# Altium integrated library RealtekSwitches.IntLib: 4 symbols
Pins are listed as number, name and electrical type; pins without a type are passive.

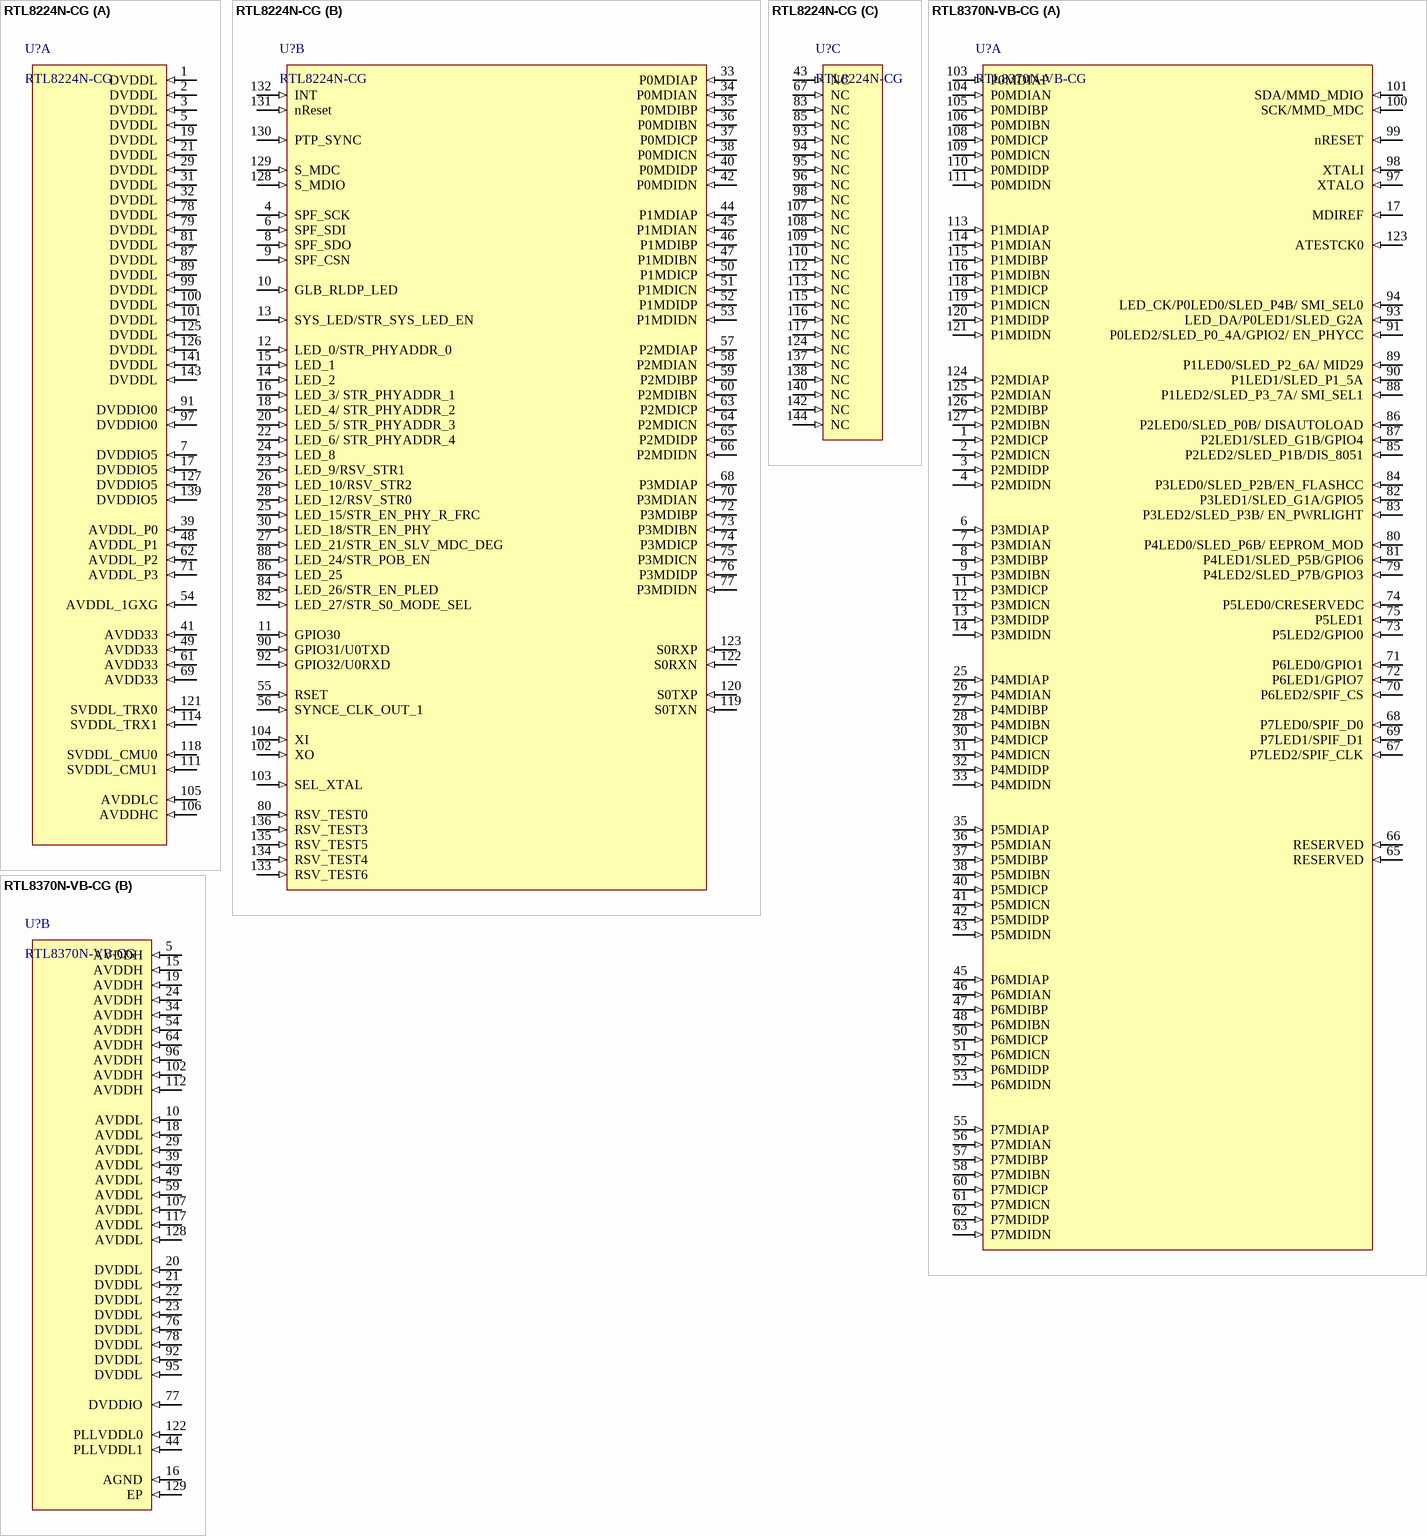
[diagram p0: symbols RTL8224N-CG to RTL8370N-VB-CG]

## RTL8224N-CG
designator U?
part A pins: 1 DVDDL (in), 2 DVDDL (in), 3 DVDDL (in), 5 DVDDL (in), 7 DVDDIO5 (in), 17 DVDDIO5 (in), 19 DVDDL (in), 21 DVDDL (in), 29 DVDDL (in), 31 DVDDL (in), 32 DVDDL (in), 39 AVDDL_P0 (in), 41 AVDD33 (in), 48 AVDDL_P1 (in), 49 AVDD33 (in), 54 AVDDL_1GXG (in), 61 AVDD33 (in), 62 AVDDL_P2 (in), 69 AVDD33 (in), 71 AVDDL_P3 (in), 78 DVDDL (in), 79 DVDDL (in), 81 DVDDL (in), 87 DVDDL (in), 89 DVDDL (in), 91 DVDDIO0 (in), 97 DVDDIO0 (in), 99 DVDDL (in), 100 DVDDL (in), 101 DVDDL (in), 105 AVDDLC (in), 106 AVDDHC (in), 111 SVDDL_CMU1 (in), 114 SVDDL_TRX1 (in), 118 SVDDL_CMU0 (in), 121 SVDDL_TRX0 (in), 125 DVDDL (in), 126 DVDDL (in), 127 DVDDIO5 (in), 139 DVDDIO5 (in), 141 DVDDL (in), 143 DVDDL (in)
part B pins: 4 SPF_SCK (in), 6 SPF_SDI (in), 8 SPF_SDO (in), 9 SPF_CSN (in), 10 GLB_RLDP_LED (in), 11 GPIO30 (in), 12 LED_0/STR_PHYADDR_0 (in), 13 SYS_LED/STR_SYS_LED_EN (in), 14 LED_2 (in), 15 LED_1 (in), 16 LED_3/ STR_PHYADDR_1 (in), 18 LED_4/ STR_PHYADDR_2 (in), 20 LED_5/ STR_PHYADDR_3 (in), 22 LED_6/ STR_PHYADDR_4 (in), 23 LED_9/RSV_STR1 (in), 24 LED_8 (in), 25 LED_15/STR_EN_PHY_R_FRC (in), 26 LED_10/RSV_STR2 (in), 27 LED_21/STR_EN_SLV_MDC_DEG (in), 28 LED_12/RSV_STR0 (in), 30 LED_18/STR_EN_PHY (in), 33 P0MDIAP (in), 34 P0MDIAN (in), 35 P0MDIBP (in), 36 P0MDIBN (in), 37 P0MDICP (in), 38 P0MDICN (in), 40 P0MDIDP (in), 42 P0MDIDN (in), 44 P1MDIAP (in), 45 P1MDIAN (in), 46 P1MDIBP (in), 47 P1MDIBN (in), 50 P1MDICP (in), 51 P1MDICN (in), 52 P1MDIDP (in), 53 P1MDIDN (in), 55 RSET (in), 56 SYNCE_CLK_OUT_1 (in), 57 P2MDIAP (in), 58 P2MDIAN (in), 59 P2MDIBP (in), 60 P2MDIBN (in), 63 P2MDICP (in), 64 P2MDICN (in), 65 P2MDIDP (in), 66 P2MDIDN (in), 68 P3MDIAP (in), 70 P3MDIAN (in), 72 P3MDIBP (in), 73 P3MDIBN (in), 74 P3MDICP (in), 75 P3MDICN (in), 76 P3MDIDP (in), 77 P3MDIDN (in), 80 RSV_TEST0 (in), 82 LED_27/STR_S0_MODE_SEL (in), 84 LED_26/STR_EN_PLED (in), 86 LED_25 (in), 88 LED_24/STR_POB_EN (in), 90 GPIO31/U0TXD (in), 92 GPIO32/U0RXD (in), 102 XO (in), 103 SEL_XTAL (in), 104 XI (in), 119 S0TXN (in), 120 S0TXP (in), 122 S0RXN (in), 123 S0RXP (in), 128 S_MDIO (in), 129 S_MDC (in), 130 PTP_SYNC (in), 131 nReset (in), 132 INT (in), 133 RSV_TEST6 (in), 134 RSV_TEST4 (in), 135 RSV_TEST5 (in), 136 RSV_TEST3 (in)
part C pins: 43 NC (in), 67 NC (in), 83 NC (in), 85 NC (in), 93 NC (in), 94 NC (in), 95 NC (in), 96 NC (in), 98 NC (in), 107 NC (in), 108 NC (in), 109 NC (in), 110 NC (in), 112 NC (in), 113 NC (in), 115 NC (in), 116 NC (in), 117 NC (in), 124 NC (in), 137 NC (in), 138 NC (in), 140 NC (in), 142 NC (in), 144 NC (in)

## RTL8370N-VB-CG
designator U?
Single-Chip 8-Port 10/100/1000M Switch Controller , 128QFP; Manufacturer: REALTEK; ComponentLink1Description: LCSC Link; ComponentLink1URL: https://www.lcsc.com/product-detail/C2803243.html?s_z=n_RTL8370N; LCSC: C2803243; Manufacturer Part Number: RTL8370N-VB-CG
footprint QFP50P2200X1600X160-129N (/ 090726 / J.Jaramillo)
part A pins: 1 P2MDICP (in), 2 P2MDICN (in), 3 P2MDIDP (in), 4 P2MDIDN (in), 6 P3MDIAP (in), 7 P3MDIAN (in), 8 P3MDIBP (in), 9 P3MDIBN (in), 11 P3MDICP (in), 12 P3MDICN (in), 13 P3MDIDP (in), 14 P3MDIDN (in), 17 MDIREF (in), 25 P4MDIAP (in), 26 P4MDIAN (in), 27 P4MDIBP (in), 28 P4MDIBN (in), 30 P4MDICP (in), 31 P4MDICN (in), 32 P4MDIDP (in), 33 P4MDIDN (in), 35 P5MDIAP (in), 36 P5MDIAN (in), 37 P5MDIBP (in), 38 P5MDIBN (in), 40 P5MDICP (in), 41 P5MDICN (in), 42 P5MDIDP (in), 43 P5MDIDN (in), 45 P6MDIAP (in), 46 P6MDIAN (in), 47 P6MDIBP (in), 48 P6MDIBN (in), 50 P6MDICP (in), 51 P6MDICN (in), 52 P6MDIDP (in), 53 P6MDIDN (in), 55 P7MDIAP (in), 56 P7MDIAN (in), 57 P7MDIBP (in), 58 P7MDIBN (in), 60 P7MDICP (in), 61 P7MDICN (in), 62 P7MDIDP (in), 63 P7MDIDN (in), 65 RESERVED (in), 66 RESERVED (in), 67 P7LED2/SPIF_CLK (in), 68 P7LED0/SPIF_D0 (in), 69 P7LED1/SPIF_D1 (in), 70 P6LED2/SPIF_CS (in), 71 P6LED0/GPIO1 (in), 72 P6LED1/GPIO7 (in), 73 P5LED2/GPIO0 (in), 74 P5LED0/CRESERVEDC (in), 75 P5LED1 (in), 79 P4LED2/SLED_P7B/GPIO3 (in), 80 P4LED0/SLED_P6B/ EEPROM_MOD (in), 81 P4LED1/SLED_P5B/GPIO6 (in), 82 P3LED1/SLED_G1A/GPIO5 (in), 83 P3LED2/SLED_P3B/ EN_PWRLIGHT (in), 84 P3LED0/SLED_P2B/EN_FLASHCC (in), 85 P2LED2/SLED_P1B/DIS_8051 (in), 86 P2LED0/SLED_P0B/ DISAUTOLOAD (in), 87 P2LED1/SLED_G1B/GPIO4 (in), 88 P1LED2/SLED_P3_7A/ SMI_SEL1 (in), 89 P1LED0/SLED_P2_6A/ MID29 (in), 90 P1LED1/SLED_P1_5A (in), 91 P0LED2/SLED_P0_4A/GPIO2/ EN_PHYCC (in), 93 LED_DA/P0LED1/SLED_G2A (in), 94 LED_CK/P0LED0/SLED_P4B/ SMI_SEL0 (in), 97 XTALO (in), 98 XTALI (in), 99 nRESET (in), 100 SCK/MMD_MDC (in), 101 SDA/MMD_MDIO (in), 103 P0MDIAP (in), 104 P0MDIAN (in), 105 P0MDIBP (in), 106 P0MDIBN (in), 108 P0MDICP (in), 109 P0MDICN (in), 110 P0MDIDP (in), 111 P0MDIDN (in), 113 P1MDIAP (in), 114 P1MDIAN (in), 115 P1MDIBP (in), 116 P1MDIBN (in), 118 P1MDICP (in), 119 P1MDICN (in), 120 P1MDIDP (in), 121 P1MDIDN (in), 123 ATESTCK0 (in), 124 P2MDIAP (in), 125 P2MDIAN (in), 126 P2MDIBP (in), 127 P2MDIBN (in)
part B pins: 5 AVDDH (in), 10 AVDDL (in), 15 AVDDH (in), 16 AGND (in), 18 AVDDL (in), 19 AVDDH (in), 20 DVDDL (in), 21 DVDDL (in), 22 DVDDL (in), 23 DVDDL (in), 24 AVDDH (in), 29 AVDDL (in), 34 AVDDH (in), 39 AVDDL (in), 44 PLLVDDL1 (in), 49 AVDDL (in), 54 AVDDH (in), 59 AVDDL (in), 64 AVDDH (in), 76 DVDDL (in), 77 DVDDIO (in), 78 DVDDL (in), 92 DVDDL (in), 95 DVDDL (in), 96 AVDDH (in), 102 AVDDH (in), 107 AVDDL (in), 112 AVDDH (in), 117 AVDDL (in), 122 PLLVDDL0 (in), 128 AVDDL (in), 129 EP (in)

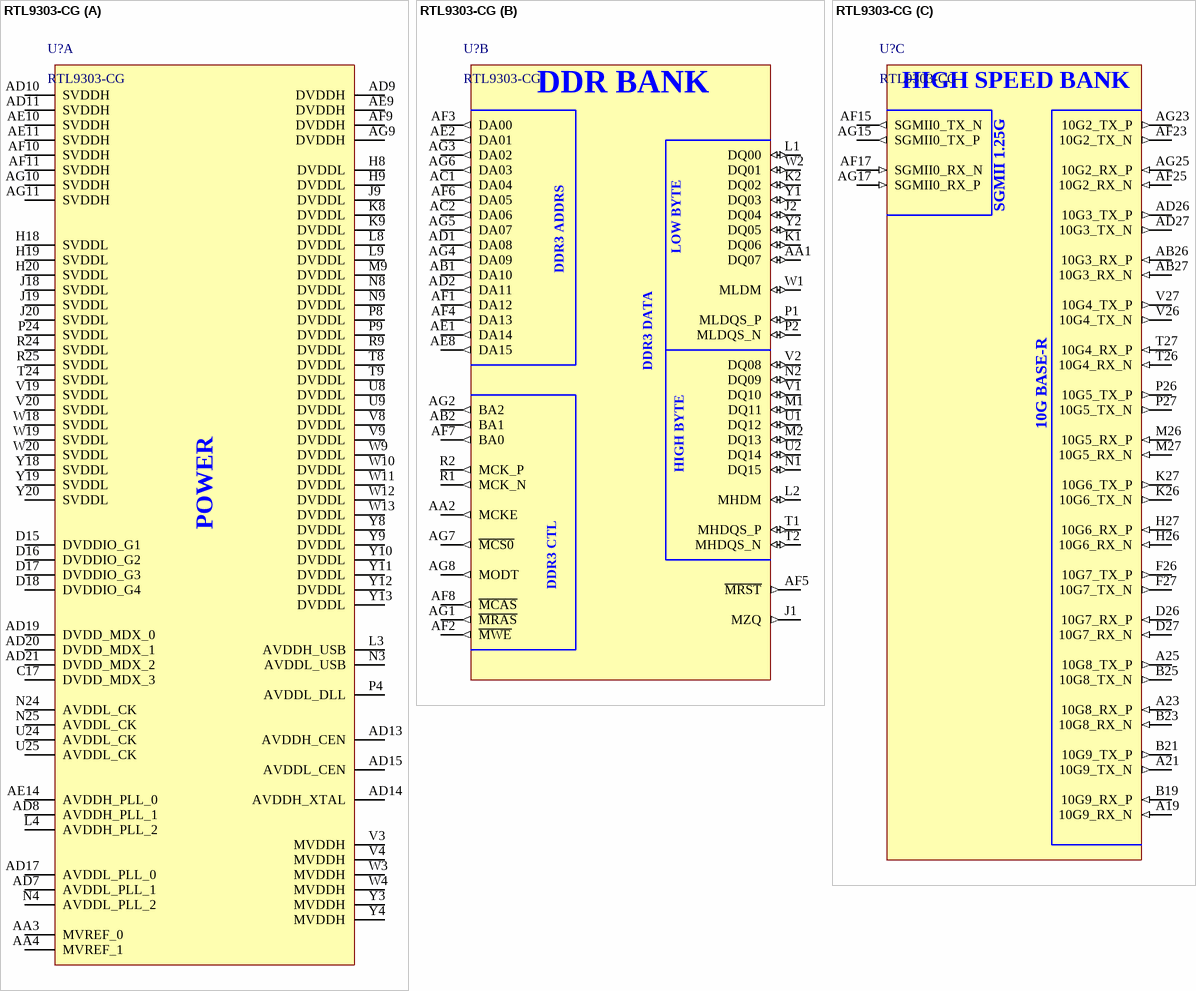
[diagram p1: symbol RTL9303-CG]

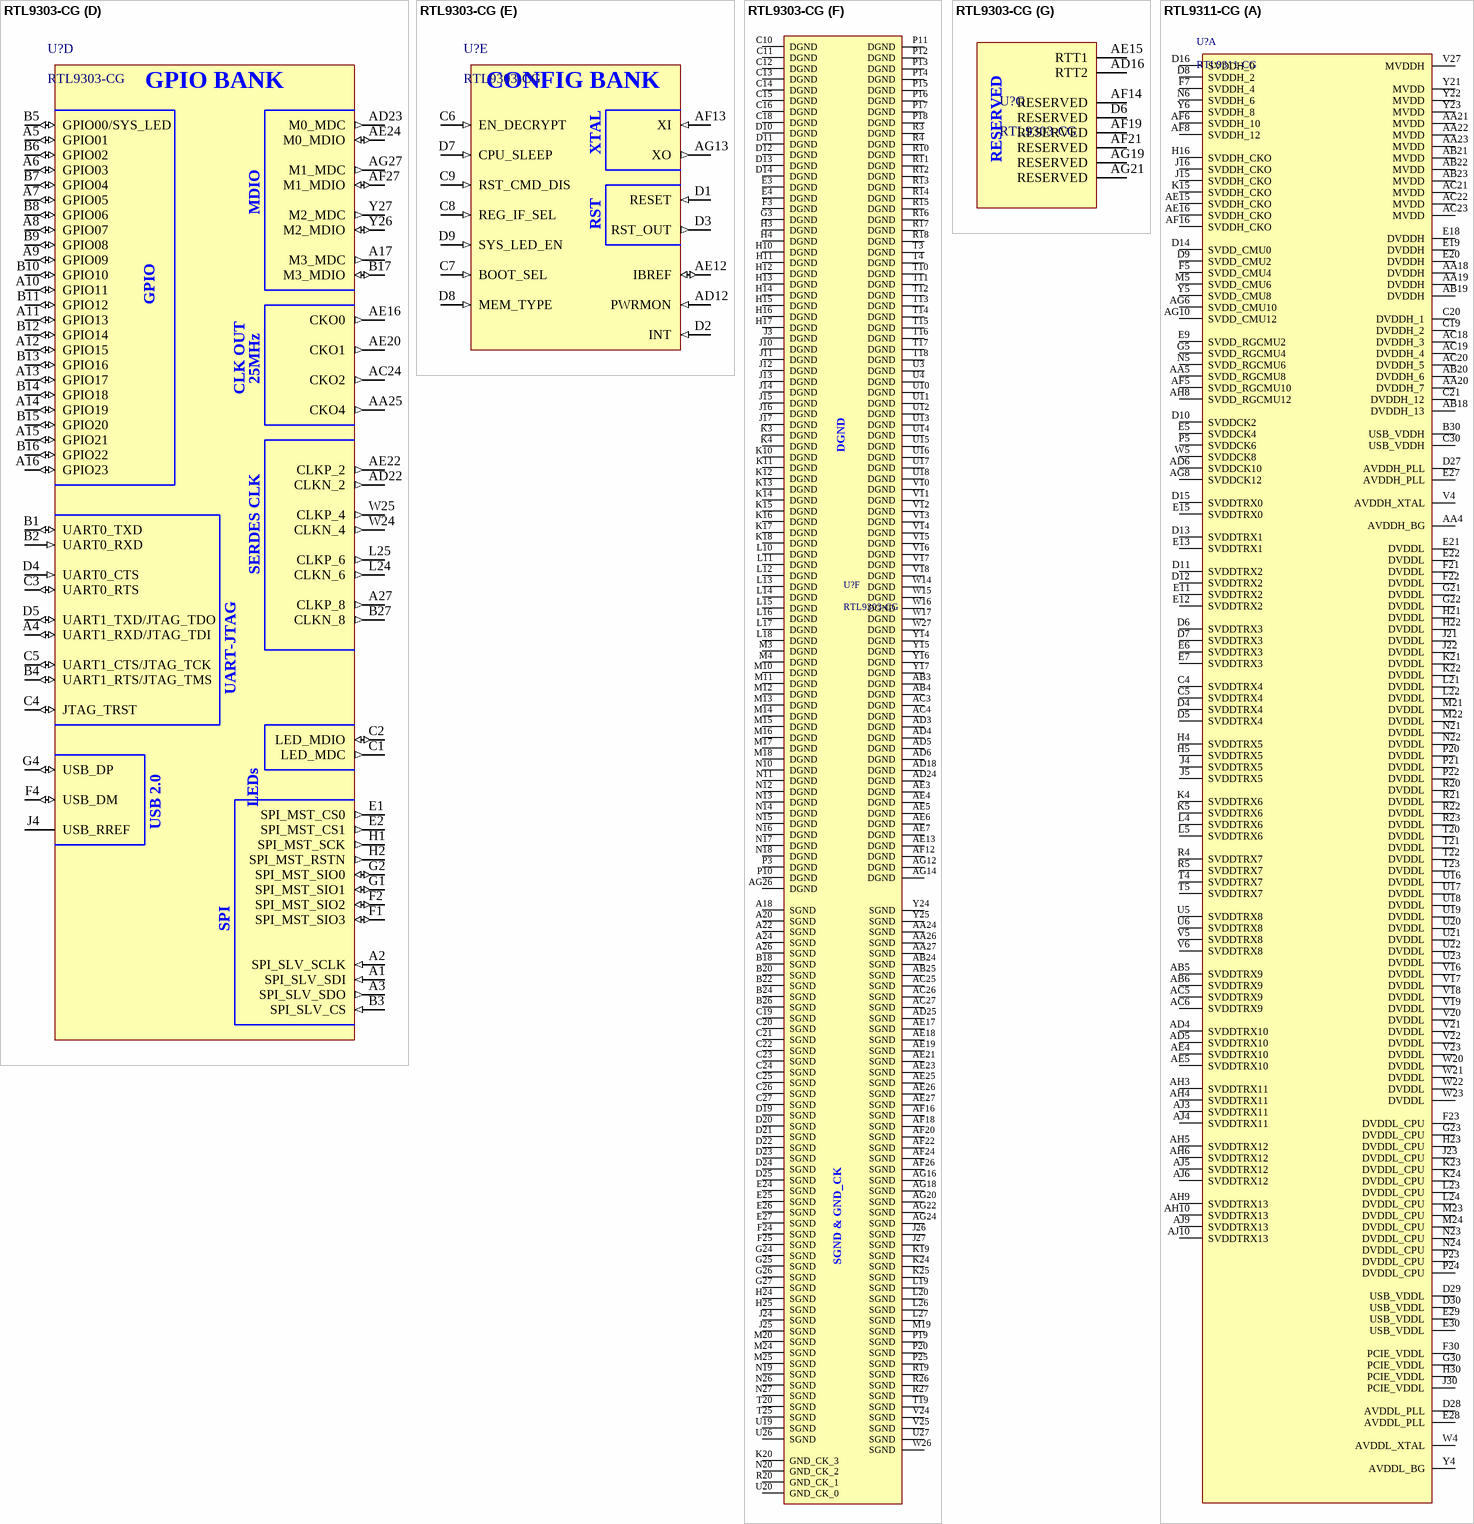
[diagram p2: symbols RTL9303-CG to RTL9311-CG]

## RTL9303-CG
designator U?
Single-Chip 8-Port 10G Layer-3 Managed Ethernet Switch Controller EDHS-PBGA533; Manufacturer: Realtek; Manufacturer Part Number: RTL9303-CG; ComponentLink1Description: New link; ComponentLink1URL: *; ComponentLink2Description: New link 1; ComponentLink2URL: *; Supplier 1: *; Supplier 1 Part number: *; Package: BGA673
footprint EDHS-PBGA533_23MMX23MM (/ 070726 / J.Jaramillo)
part A pins: AA3 MVREF_0 (power), AA4 MVREF_1 (power), AD7 AVDDL_PLL_1 (power), AD8 AVDDH_PLL_1 (power), AD9 DVDDH (power), AD10 SVDDH (power), AD11 SVDDH (power), AD13 AVDDH_CEN (power), AD14 AVDDH_XTAL (power), AD15 AVDDL_CEN (power), AD17 AVDDL_PLL_0 (power), AD19 DVDD_MDX_0 (power), AD20 DVDD_MDX_1 (power), AD21 DVDD_MDX_2 (power), AE9 DVDDH (power), AE10 SVDDH (power), AE11 SVDDH (power), AE14 AVDDH_PLL_0 (power), AF9 DVDDH (power), AF10 SVDDH (power), AF11 SVDDH (power), AG9 DVDDH (power), AG10 SVDDH (power), AG11 SVDDH (power), C17 DVDD_MDX_3 (power), D15 DVDDIO_G1 (power), D16 DVDDIO_G2 (power), D17 DVDDIO_G3 (power), D18 DVDDIO_G4 (power), H8 DVDDL (power), H9 DVDDL (power), H18 SVDDL (power), H19 SVDDL (power), H20 SVDDL (power), J9 DVDDL (power), J18 SVDDL (power), J19 SVDDL (power), J20 SVDDL (power), K8 DVDDL (power), K9 DVDDL (power), L3 AVDDH_USB (power), L4 AVDDH_PLL_2 (power), L8 DVDDL (power), L9 DVDDL (power), M9 DVDDL (power), N3 AVDDL_USB (power), N4 AVDDL_PLL_2 (power), N8 DVDDL (power), N9 DVDDL (power), N24 AVDDL_CK (power), N25 AVDDL_CK (power), P4 AVDDL_DLL (power), P8 DVDDL (power), P9 DVDDL (power), P24 SVDDL (power), R9 DVDDL (power), R24 SVDDL (power), R25 SVDDL (power), T8 DVDDL (power), T9 DVDDL (power), T24 SVDDL (power), U8 DVDDL (power), U9 DVDDL (power), U24 AVDDL_CK (power), U25 AVDDL_CK (power), V3 MVDDH (power), V4 MVDDH (power), V8 DVDDL (power), V9 DVDDL (power), V19 SVDDL (power), V20 SVDDL (power), W3 MVDDH (power), W4 MVDDH (power), W9 DVDDL (power), W10 DVDDL (power), W11 DVDDL (power), W12 DVDDL (power), W13 DVDDL (power), W18 SVDDL (power), W19 SVDDL (power), W20 SVDDL (power), Y3 MVDDH (power), Y4 MVDDH (power), Y8 DVDDL (power), Y9 DVDDL (power), Y10 DVDDL (power), Y11 DVDDL (power), Y12 DVDDL (power), Y13 DVDDL (power), Y18 SVDDL (power), Y19 SVDDL (power), Y20 SVDDL (power)
part B pins: AA1 DQ07 (io), AA2 MCKE (out), AB1 DA10 (out), AB2 BA1 (out), AC1 DA04 (out), AC2 DA06 (out), AD1 DA08 (out), AD2 DA11 (out), AE1 DA14 (out), AE2 DA01 (out), AE8 DA15 (out), AF1 DA12 (out), AF2 ~{MWE} (out), AF3 DA00 (out), AF4 DA13 (out), AF5 ~{MRST} (out), AF6 DA05 (out), AF7 BA0 (out), AF8 ~{MCAS} (out), AG1 ~{MRAS} (out), AG2 BA2 (out), AG3 DA02 (out), AG4 DA09 (out), AG5 DA07 (out), AG6 DA03 (out), AG7 ~{MCS0} (out), AG8 MODT (out), J1 MZQ (out), J2 DQ04 (io), K1 DQ06 (io), K2 DQ02 (io), L1 DQ00 (io), L2 MHDM (io), M1 DQ11 (io), M2 DQ13 (io), N1 DQ15 (io), N2 DQ09 (io), P1 MLDQS_P (io), P2 MLDQS_N (io), R1 MCK_N (out), R2 MCK_P (out), T1 MHDQS_P (io), T2 MHDQS_N (io), U1 DQ12 (io), U2 DQ14 (io), V1 DQ10 (io), V2 DQ08 (io), W1 MLDM (io), W2 DQ01 (io), Y1 DQ03 (io), Y2 DQ05 (io)
part C pins: A19 10G9_RX_N (in), A21 10G9_TX_N (out), A23 10G8_RX_P (in), A25 10G8_TX_P (out), AB26 10G3_RX_P (in), AB27 10G3_RX_N (in), AD26 10G3_TX_P (out), AD27 10G3_TX_N (out), AF15 SGMII0_TX_N (out), AF17 SGMII0_RX_N (in), AF23 10G2_TX_N (out), AF25 10G2_RX_N (in), AG15 SGMII0_TX_P (out), AG17 SGMII0_RX_P (in), AG23 10G2_TX_P (out), AG25 10G2_RX_P (in), B19 10G9_RX_P (in), B21 10G9_TX_P (out), B23 10G8_RX_N (in), B25 10G8_TX_N (out), D26 10G7_RX_P (in), D27 10G7_RX_N (in), F26 10G7_TX_P (out), F27 10G7_TX_N (out), H26 10G6_RX_N (in), H27 10G6_RX_P (in), K26 10G6_TX_N (out), K27 10G6_TX_P (out), M26 10G5_RX_P (in), M27 10G5_RX_N (in), P26 10G5_TX_P (out), P27 10G5_TX_N (out), T26 10G4_RX_N (in), T27 10G4_RX_P (in), V26 10G4_TX_N (out), V27 10G4_TX_P (out)
part D pins: A1 SPI_SLV_SDI (in), A2 SPI_SLV_SCLK (in), A3 SPI_SLV_SDO (out), A4 UART1_RXD/JTAG_TDI (io), A5 GPIO01 (io), A6 GPIO03 (io), A7 GPIO05 (io), A8 GPIO07 (io), A9 GPIO09 (io), A10 GPIO11 (io), A11 GPIO13 (io), A12 GPIO15 (io), A13 GPIO17 (io), A14 GPIO19 (io), A15 GPIO21 (io), A16 GPIO23 (io), A17 M3_MDC (out), A27 CLKP_8 (out), AA25 CKO4 (out), AC24 CKO2 (out), AD22 CLKN_2 (out), AD23 M0_MDC (out), AE16 CKO0 (out), AE20 CKO1 (out), AE22 CLKP_2 (out), AE24 M0_MDIO (io), AF27 M1_MDIO (io), AG27 M1_MDC (out), B1 UART0_TXD (io), B2 UART0_RXD (in), B3 SPI_SLV_CS (in), B4 UART1_RTS/JTAG_TMS (io), B5 GPIO00/SYS_LED (io), B6 GPIO02 (io), B7 GPIO04 (io), B8 GPIO06 (io), B9 GPIO08 (io), B10 GPIO10 (io), B11 GPIO12 (io), B12 GPIO14 (io), B13 GPIO16 (io), B14 GPIO18 (io), B15 GPIO20 (io), B16 GPIO22 (io), B17 M3_MDIO (io), B27 CLKN_8 (out), C1 LED_MDC (out), C2 LED_MDIO (io), C3 UART0_RTS (io), C4 JTAG_TRST (io), C5 UART1_CTS/JTAG_TCK (io), D4 UART0_CTS (in), D5 UART1_TXD/JTAG_TDO (io), E1 SPI_MST_CS0 (out), E2 SPI_MST_CS1 (out), F1 SPI_MST_SIO3 (io), F2 SPI_MST_SIO2 (io), F4 USB_DM (io), G1 SPI_MST_SIO1 (io), G2 SPI_MST_SIO0 (io), G4 USB_DP (io), H1 SPI_MST_SCK (out), H2 SPI_MST_RSTN (out), J4 USB_RREF, L24 CLKN_6 (out), L25 CLKP_6 (out), W24 CLKN_4 (out), W25 CLKP_4 (out), Y26 M2_MDIO (io), Y27 M2_MDC (out)
part E pins: AD12 PWRMON (in), AE12 IBREF (io), AF13 XI (in), AG13 XO (out), C6 EN_DECRYPT (in), C7 BOOT_SEL (in), C8 REG_IF_SEL (in), C9 RST_CMD_DIS (in), D1 RESET (in), D2 INT (in), D3 RST_OUT (out), D7 CPU_SLEEP (in), D8 MEM_TYPE (in), D9 SYS_LED_EN (in)
part F pins: A18 SGND (power), A20 SGND (power), A22 SGND (power), A24 SGND (power), A26 SGND (power), AA24 SGND (power), AA26 SGND (power), AA27 SGND (power), AB3 DGND (power), AB4 DGND (power), AB24 SGND (power), AB25 SGND (power), AC3 DGND (power), AC4 DGND (power), AC25 SGND (power), AC26 SGND (power), AC27 SGND (power), AD3 DGND (power), AD4 DGND (power), AD5 DGND (power), AD6 DGND (power), AD18 DGND (power), AD24 DGND (power), AD25 SGND (power), AE3 DGND (power), AE4 DGND (power), AE5 DGND (power), AE6 DGND (power), AE7 DGND (power), AE13 DGND (power), AE17 SGND (power), AE18 SGND (power), AE19 SGND (power), AE21 SGND (power), AE23 SGND (power), AE25 SGND (power), AE26 SGND (power), AE27 SGND (power), AF12 DGND (power), AF16 SGND (power), AF18 SGND (power), AF20 SGND (power), AF22 SGND (power), AF24 SGND (power), AF26 SGND (power), AG12 DGND (power), AG14 DGND (power), AG16 SGND (power), AG18 SGND (power), AG20 SGND (power), AG22 SGND (power), AG24 SGND (power), AG26 DGND (power), B18 SGND (power), B20 SGND (power), B22 SGND (power), B24 SGND (power), B26 SGND (power), C10 DGND (power), C11 DGND (power), C12 DGND (power), C13 DGND (power), C14 DGND (power), C15 DGND (power), C16 DGND (power), C18 DGND (power), C19 SGND (power), C20 SGND (power), C21 SGND (power), C22 SGND (power), C23 SGND (power), C24 SGND (power), C25 SGND (power), C26 SGND (power), C27 SGND (power), D10 DGND (power), D11 DGND (power), D12 DGND (power), D13 DGND (power), D14 DGND (power), D19 SGND (power), D20 SGND (power), D21 SGND (power), D22 SGND (power), D23 SGND (power), D24 SGND (power), D25 SGND (power), E3 DGND (power), E4 DGND (power), E24 SGND (power), E25 SGND (power), E26 SGND (power), E27 SGND (power), F3 DGND (power), F24 SGND (power), F25 SGND (power), G3 DGND (power), G24 SGND (power), G25 SGND (power), G26 SGND (power), G27 SGND (power), H3 DGND (power), H4 DGND (power), H10 DGND (power), H11 DGND (power), H12 DGND (power), H13 DGND (power), H14 DGND (power), H15 DGND (power), H16 DGND (power), H17 DGND (power), H24 SGND (power), H25 SGND (power), J3 DGND (power), J10 DGND (power), J11 DGND (power), J12 DGND (power), J13 DGND (power), J14 DGND (power), J15 DGND (power), J16 DGND (power), J17 DGND (power), J24 SGND (power), J25 SGND (power), J26 SGND (power), J27 SGND (power), K3 DGND (power), K4 DGND (power), K10 DGND (power), K11 DGND (power), K12 DGND (power), K13 DGND (power), K14 DGND (power), K15 DGND (power), K16 DGND (power), K17 DGND (power), K18 DGND (power), K19 SGND (power), K20 GND_CK_3 (power), K24 SGND (power), K25 SGND (power), L10 DGND (power), L11 DGND (power), L12 DGND (power), L13 DGND (power), L14 DGND (power), L15 DGND (power), L16 DGND (power), L17 DGND (power), L18 DGND (power), L19 SGND (power), L20 SGND (power), L26 SGND (power), L27 SGND (power), M3 DGND (power), M4 DGND (power), M10 DGND (power), M11 DGND (power), M12 DGND (power), M13 DGND (power), M14 DGND (power), M15 DGND (power), M16 DGND (power), M17 DGND (power), M18 DGND (power), M19 SGND (power), M20 SGND (power), M24 SGND (power), M25 SGND (power), N10 DGND (power), N11 DGND (power), N12 DGND (power), N13 DGND (power), N14 DGND (power), N15 DGND (power), N16 DGND (power), N17 DGND (power), N18 DGND (power), N19 SGND (power), N20 GND_CK_2 (power), N26 SGND (power), N27 SGND (power), P3 DGND (power), P10 DGND (power), P11 DGND (power), P12 DGND (power), P13 DGND (power), P14 DGND (power), P15 DGND (power), P16 DGND (power), P17 DGND (power), P18 DGND (power), P19 SGND (power), P20 SGND (power), P25 SGND (power), R3 DGND (power), R4 DGND (power), R10 DGND (power), R11 DGND (power), R12 DGND (power), R13 DGND (power), R14 DGND (power), R15 DGND (power), R16 DGND (power), R17 DGND (power), R18 DGND (power), R19 SGND (power), R20 GND_CK_1 (power), R26 SGND (power), R27 SGND (power), T3 DGND (power), T4 DGND (power), T10 DGND (power), T11 DGND (power), T12 DGND (power), T13 DGND (power), T14 DGND (power), T15 DGND (power), T16 DGND (power), T17 DGND (power), T18 DGND (power), T19 SGND (power), T20 SGND (power), T25 SGND (power), U3 DGND (power), U4 DGND (power), U10 DGND (power), U11 DGND (power), U12 DGND (power), U13 DGND (power), U14 DGND (power), U15 DGND (power), U16 DGND (power), U17 DGND (power), U18 DGND (power), U19 SGND (power), U20 GND_CK_0 (power), U26 SGND (power), U27 SGND (power), V10 DGND (power), V11 DGND (power), V12 DGND (power), V13 DGND (power), V14 DGND (power), V15 DGND (power), V16 DGND (power), V17 DGND (power), V18 DGND (power), V24 SGND (power), V25 SGND (power), W14 DGND (power), W15 DGND (power), W16 DGND (power), W17 DGND (power), W26 SGND (power), W27 DGND (power), Y14 DGND (power), Y15 DGND (power), Y16 DGND (power), Y17 DGND (power), Y24 SGND (power), Y25 SGND (power)
part G pins: AD16 RTT2, AE15 RTT1, AF14 RESERVED, AF19 RESERVED, AF21 RESERVED, AG19 RESERVED, AG21 RESERVED, D6 RESERVED
part A text: POWER
part B text: DDR BANK; LOW BYTE; DDR3 ADDRS; DDR3 DATA; HIGH BYTE; DDR3 CTL
part C text: HIGH SPEED BANK; SGMII 1.25G; 10G BASE-R
part D text: GPIO BANK; MDIO; GPIO; 25MHz; CLK OUT; SERDES CLK; UART-JTAG; LEDs; USB 2.0; SPI
part E text: CONFIG BANK; XTAL; RST
part F text: SGND & GND_CK

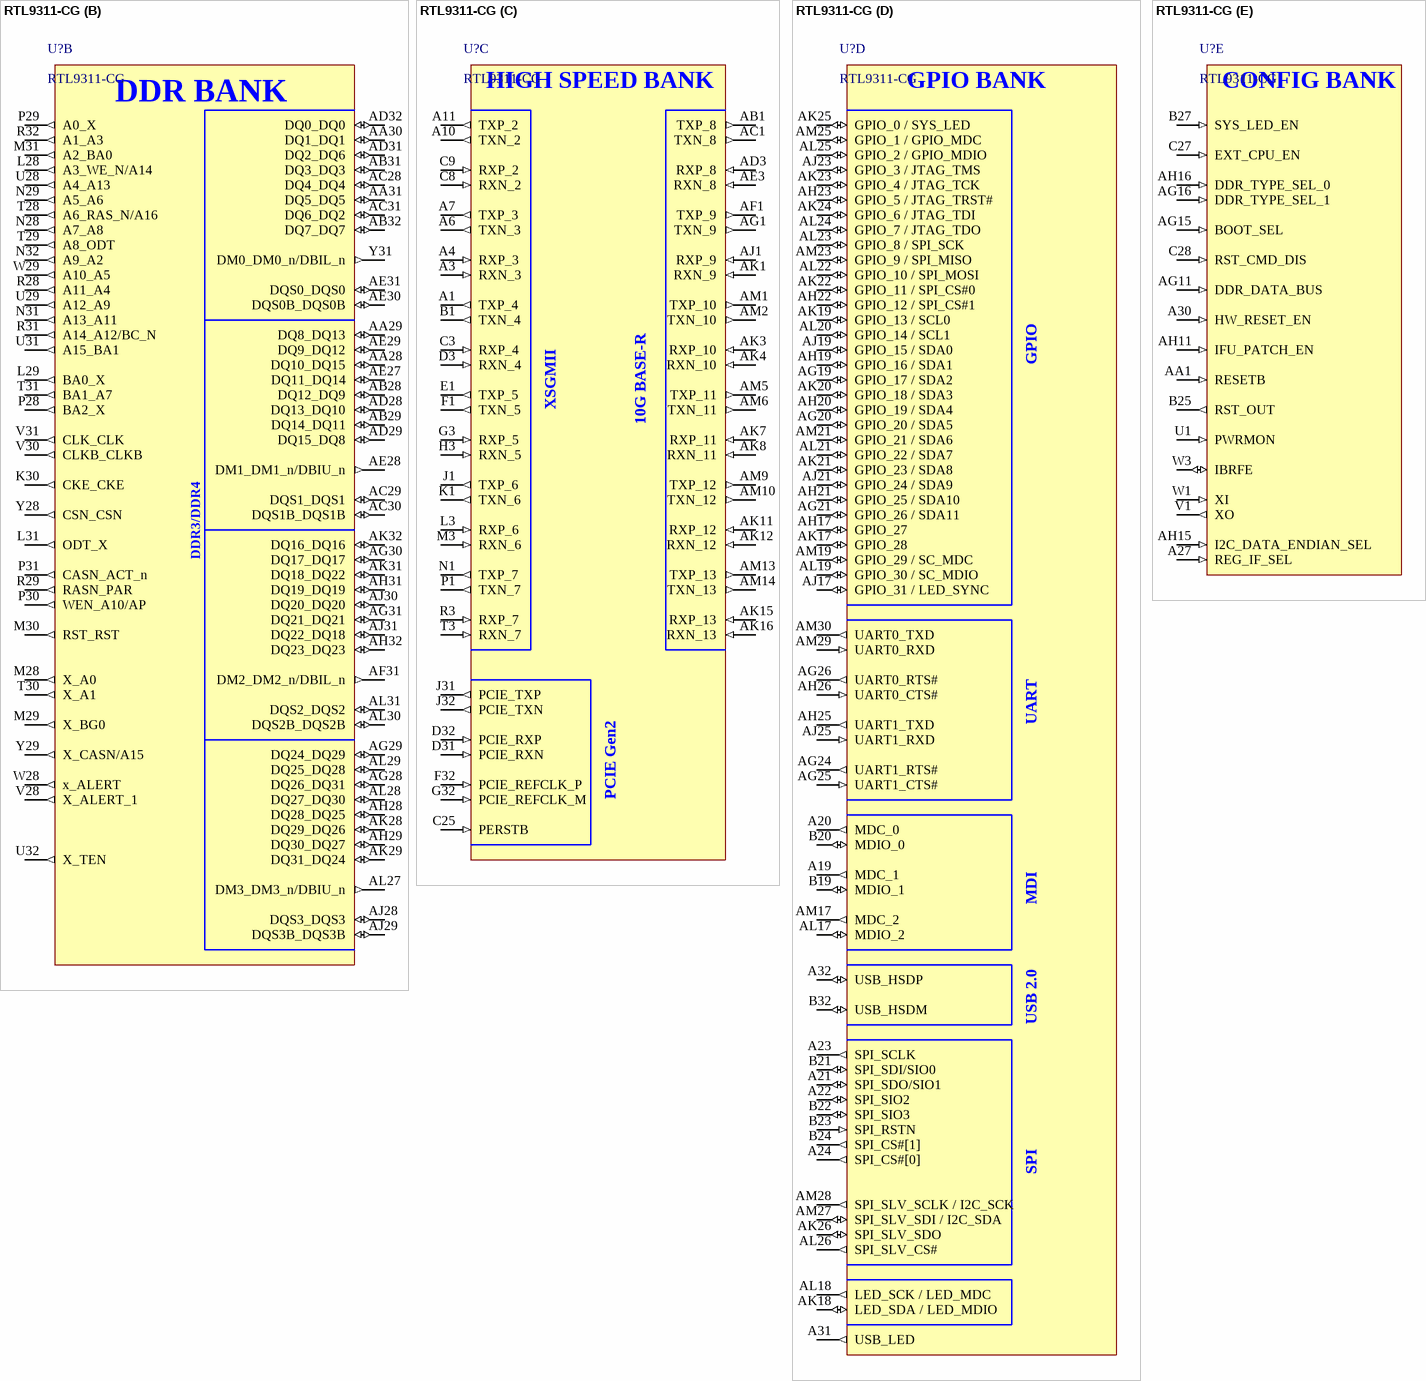
[diagram p3: symbol RTL9311-CG]

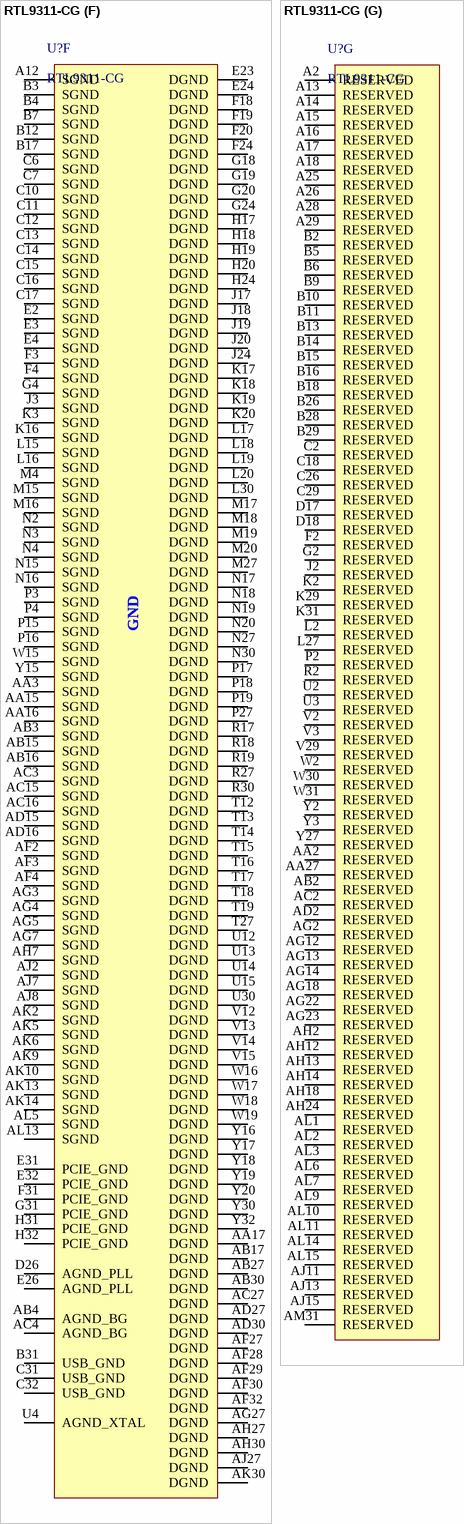
[diagram p4: symbol RTL9311-CG]

## RTL9311-CG
designator U?
Manufacturer: Realtek; Manufacturer Part Number: RTL9311-CG
footprint BGA673C80P32X32_2700X2700X263 (BGA, 673-Leads, Body 27,00x27,00mmx2,63mm, Pitch 0,80mm)
part A pins: AA4 AVDDH_BG (power), AA5 SVDD_RGCMU8 (power), AA18 DVDDH (power), AA19 DVDDH (power), AA20 DVDDH_7 (power), AA21 MVDD (power), AA22 MVDD (power), AA23 MVDD (power), AB5 SVDDTRX9 (power), AB6 SVDDTRX9 (power), AB18 DVDDH_13 (power), AB19 DVDDH (power), AB20 DVDDH_6 (power), AB21 MVDD (power), AB22 MVDD (power), AB23 MVDD (power), AC5 SVDDTRX9 (power), AC6 SVDDTRX9 (power), AC18 DVDDH_3 (power), AC19 DVDDH_4 (power), AC20 DVDDH_5 (power), AC21 MVDD (power), AC22 MVDD (power), AC23 MVDD (power), AD4 SVDDTRX10 (power), AD5 SVDDTRX10 (power), AD6 SVDDCK10 (power), AE4 SVDDTRX10 (power), AE5 SVDDTRX10 (power), AE15 SVDDH_CKO (power), AE16 SVDDH_CKO (power), AF5 SVDD_RGCMU10 (power), AF6 SVDDH_10 (power), AF8 SVDDH_12 (power), AF16 SVDDH_CKO (power), AG6 SVDD_CMU10 (power), AG8 SVDDCK12 (power), AG10 SVDD_CMU12 (power), AH3 SVDDTRX11 (power), AH4 SVDDTRX11 (power), AH5 SVDDTRX12 (power), AH6 SVDDTRX12 (power), AH8 SVDD_RGCMU12 (power), AH9 SVDDTRX13 (power), AH10 SVDDTRX13 (power), AJ3 SVDDTRX11 (power), AJ4 SVDDTRX11 (power), AJ5 SVDDTRX12 (power), AJ6 SVDDTRX12 (power), AJ9 SVDDTRX13 (power), AJ10 SVDDTRX13 (power), B30 USB_VDDH (power), C4 SVDDTRX4 (power), C5 SVDDTRX4 (power), C19 DVDDH_2 (power), C20 DVDDH_1 (power), C21 DVDDH_12 (power), C30 USB_VDDH (power), D4 SVDDTRX4 (power), D5 SVDDTRX4 (power), D6 SVDDTRX3 (power), D7 SVDDTRX3 (power), D8 SVDDH_2 (power), D9 SVDD_CMU2 (power), D10 SVDDCK2 (power), D11 SVDDTRX2 (power), D12 SVDDTRX2 (power), D13 SVDDTRX1 (power), D14 SVDD_CMU0 (power), D15 SVDDTRX0 (power), D16 SVDDH_0 (power), D27 AVDDH_PLL (power), D28 AVDDL_PLL (power), D29 USB_VDDL (power), D30 USB_VDDL (power), E5 SVDDCK4 (power), E6 SVDDTRX3 (power), E7 SVDDTRX3 (power), E9 SVDD_RGCMU2 (power), E11 SVDDTRX2 (power), E12 SVDDTRX2 (power), E13 SVDDTRX1 (power), E15 SVDDTRX0 (power), E18 DVDDH (power), E19 DVDDH (power), E20 DVDDH (power), E21 DVDDL (power), E22 DVDDL (power), E27 AVDDH_PLL (power), E28 AVDDL_PLL (power), E29 USB_VDDL (power), E30 USB_VDDL (power), F5 SVDD_CMU4 (power), F7 SVDDH_4 (power), F21 DVDDL (power), F22 DVDDL (power), F23 DVDDL_CPU (power), F30 PCIE_VDDL (power), G5 SVDD_RGCMU4 (power), G21 DVDDL (power), G22 DVDDL (power), G23 DVDDL_CPU (power), G30 PCIE_VDDL (power), H4 SVDDTRX5 (power), H5 SVDDTRX5 (power), H16 SVDDH_CKO (power), H21 DVDDL (power), H22 DVDDL (power), H23 DVDDL_CPU (power), H30 PCIE_VDDL (power), J4 SVDDTRX5 (power), J5 SVDDTRX5 (power), J15 SVDDH_CKO (power), J16 SVDDH_CKO (power), J21 DVDDL (power), J22 DVDDL (power), J23 DVDDL_CPU (power), J30 PCIE_VDDL (power), K4 SVDDTRX6 (power), K5 SVDDTRX6 (power), K15 SVDDH_CKO (power), K21 DVDDL (power), K22 DVDDL (power), K23 DVDDL_CPU (power), K24 DVDDL_CPU (power), L4 SVDDTRX6 (power), L5 SVDDTRX6 (power), L21 DVDDL (power), L22 DVDDL (power), L23 DVDDL_CPU (power), L24 DVDDL_CPU (power), M5 SVDD_CMU6 (power), M21 DVDDL (power), M22 DVDDL (power), M23 DVDDL_CPU (power), M24 DVDDL_CPU (power), N5 SVDD_RGCMU6 (power), N6 SVDDH_6 (power), N21 DVDDL (power), N22 DVDDL (power), N23 DVDDL_CPU (power), N24 DVDDL_CPU (power), P5 SVDDCK6 (power), P20 DVDDL (power), P21 DVDDL (power), P22 DVDDL (power), P23 DVDDL_CPU (power), P24 DVDDL_CPU (power), R4 SVDDTRX7 (power), R5 SVDDTRX7 (power), R20 DVDDL (power), R21 DVDDL (power), R22 DVDDL (power), R23 DVDDL (power), T4 SVDDTRX7 (power), T5 SVDDTRX7 (power), T20 DVDDL (power), T21 DVDDL (power), T22 DVDDL (power), T23 DVDDL (power), U5 SVDDTRX8 (power), U6 SVDDTRX8 (power), U16 DVDDL (power), U17 DVDDL (power), U18 DVDDL (power), U19 DVDDL (power), U20 DVDDL (power), U21 DVDDL (power), U22 DVDDL (power), U23 DVDDL (power), V4 AVDDH_XTAL (power), V5 SVDDTRX8 (power), V6 SVDDTRX8 (power), V16 DVDDL (power), V17 DVDDL (power), V18 DVDDL (power), V19 DVDDL (power), V20 DVDDL (power), V21 DVDDL (power), V22 DVDDL (power), V23 DVDDL (power), V27 MVDDH (power), W4 AVDDL_XTAL (power), W5 SVDDCK8 (power), W20 DVDDL (power), W21 DVDDL (power), W22 DVDDL (power), W23 DVDDL (power), Y4 AVDDL_BG (power), Y5 SVDD_CMU8 (power), Y6 SVDDH_8 (power), Y21 MVDD (power), Y22 MVDD (power), Y23 MVDD (power)
part B pins: AA28 DQ10_DQ15 (io), AA29 DQ8_DQ13 (io), AA30 DQ1_DQ1 (io), AA31 DQ5_DQ5 (io), AB28 DQ12_DQ9 (io), AB29 DQ14_DQ11 (io), AB31 DQ3_DQ3 (io), AB32 DQ7_DQ7 (io), AC28 DQ4_DQ4 (io), AC29 DQS1_DQS1 (io), AC30 DQS1B_DQS1B (io), AC31 DQ6_DQ2 (io), AD28 DQ13_DQ10 (io), AD29 DQ15_DQ8 (io), AD31 DQ2_DQ6 (io), AD32 DQ0_DQ0 (io), AE27 DQ11_DQ14 (io), AE28 DM1_DM1_n/DBIU_n (out), AE29 DQ9_DQ12 (io), AE30 DQS0B_DQS0B (io), AE31 DQS0_DQS0 (io), AF31 DM2_DM2_n/DBIL_n (out), AG28 DQ26_DQ31 (io), AG29 DQ24_DQ29 (io), AG30 DQ17_DQ17 (io), AG31 DQ21_DQ21 (io), AH28 DQ28_DQ25 (io), AH29 DQ30_DQ27 (io), AH31 DQ19_DQ19 (io), AH32 DQ23_DQ23 (io), AJ28 DQS3_DQS3 (io), AJ29 DQS3B_DQS3B (io), AJ30 DQ20_DQ20 (io), AJ31 DQ22_DQ18 (io), AK28 DQ29_DQ26 (io), AK29 DQ31_DQ24 (io), AK31 DQ18_DQ22 (io), AK32 DQ16_DQ16 (io), AL27 DM3_DM3_n/DBIU_n (out), AL28 DQ27_DQ30 (io), AL29 DQ25_DQ28 (io), AL30 DQS2B_DQS2B (io), AL31 DQS2_DQS2 (io), K30 CKE_CKE (out), L28 A3_WE_N/A14 (out), L29 BA0_X (out), L31 ODT_X (out), M28 X_A0 (out), M29 X_BG0 (out), M30 RST_RST (out), M31 A2_BA0 (out), N28 A7_A8 (out), N29 A5_A6 (out), N31 A13_A11 (out), N32 A9_A2 (out), P28 BA2_X (out), P29 A0_X (out), P30 WEN_A10/AP (out), P31 CASN_ACT_n (out), R28 A11_A4 (out), R29 RASN_PAR (out), R31 A14_A12/BC_N (out), R32 A1_A3 (out), T28 A6_RAS_N/A16 (out), T29 A8_ODT (out), T30 X_A1 (out), T31 BA1_A7 (out), U28 A4_A13 (out), U29 A12_A9 (out), U31 A15_BA1 (out), U32 X_TEN (out), V28 X_ALERT_1 (out), V30 CLKB_CLKB (out), V31 CLK_CLK (out), W28 x_ALERT (out), W29 A10_A5 (out), Y28 CSN_CSN (out), Y29 X_CASN/A15 (out), Y31 DM0_DM0_n/DBIL_n (out)
part C pins: A1 TXP_4 (out), A3 RXN_3 (in), A4 RXP_3 (in), A6 TXN_3 (out), A7 TXP_3 (out), A10 TXN_2 (out), A11 TXP_2 (out), AB1 TXP_8 (out), AC1 TXN_8 (out), AD3 RXP_8 (in), AE3 RXN_8 (in), AF1 TXP_9 (out), AG1 TXN_9 (out), AJ1 RXP_9 (in), AK1 RXN_9 (in), AK3 RXP_10 (in), AK4 RXN_10 (in), AK7 RXP_11 (in), AK8 RXN_11 (in), AK11 RXP_12 (in), AK12 RXN_12 (in), AK15 RXP_13 (in), AK16 RXN_13 (in), AM1 TXP_10 (out), AM2 TXN_10 (out), AM5 TXP_11 (out), AM6 TXN_11 (out), AM9 TXP_12 (out), AM10 TXN_12 (out), AM13 TXP_13 (out), AM14 TXN_13 (out), B1 TXN_4 (out), C3 RXP_4 (in), C8 RXN_2 (in), C9 RXP_2 (in), C25 PERSTB (in), D3 RXN_4 (in), D31 PCIE_RXN (in), D32 PCIE_RXP (in), E1 TXP_5 (out), F1 TXN_5 (out), F32 PCIE_REFCLK_P (in), G3 RXP_5 (in), G32 PCIE_REFCLK_M (in), H3 RXN_5 (in), J1 TXP_6 (out), J31 PCIE_TXP (out), J32 PCIE_TXN (out), K1 TXN_6 (out), L3 RXP_6 (in), M3 RXN_6 (in), N1 TXP_7 (out), P1 TXN_7 (out), R3 RXP_7 (in), T3 RXN_7 (in)
part D pins: A19 MDC_1 (out), A20 MDC_0 (out), A21 SPI_SDO/SIO1 (io), A22 SPI_SIO2 (io), A23 SPI_SCLK (out), A24 SPI_CS#[0] (out), A31 USB_LED (out), A32 USB_HSDP (io), AG19 GPIO_17 / SDA2 (io), AG20 GPIO_20 / SDA5 (io), AG21 GPIO_26 / SDA11 (io), AG24 UART1_RTS# (out), AG25 UART1_CTS# (in), AG26 UART0_RTS# (out), AH17 GPIO_27 (io), AH19 GPIO_16 / SDA1 (io), AH20 GPIO_19 / SDA4 (io), AH21 GPIO_25 / SDA10 (io), AH22 GPIO_12 / SPI_CS#1 (io), AH23 GPIO_5 / JTAG_TRST# (io), AH25 UART1_TXD (out), AH26 UART0_CTS# (in), AJ17 GPIO_31 / LED_SYNC (io), AJ19 GPIO_15 / SDA0 (io), AJ21 GPIO_24 / SDA9 (io), AJ23 GPIO_3 / JTAG_TMS (io), AJ25 UART1_RXD (in), AK17 GPIO_28 (io), AK18 LED_SDA / LED_MDIO (io), AK19 GPIO_13 / SCL0 (io), AK20 GPIO_18 / SDA3 (io), AK21 GPIO_23 / SDA8 (io), AK22 GPIO_11 / SPI_CS#0 (io), AK23 GPIO_4 / JTAG_TCK (io), AK24 GPIO_6 / JTAG_TDI (io), AK25 GPIO_0 / SYS_LED (io), AK26 SPI_SLV_SDO (io), AL17 MDIO_2 (io), AL18 LED_SCK / LED_MDC (out), AL19 GPIO_30 / SC_MDIO (io), AL20 GPIO_14 / SCL1 (io), AL21 GPIO_22 / SDA7 (io), AL22 GPIO_10 / SPI_MOSI (io), AL23 GPIO_8 / SPI_SCK (io), AL24 GPIO_7 / JTAG_TDO (io), AL25 GPIO_2 / GPIO_MDIO (io), AL26 SPI_SLV_CS# (out), AM17 MDC_2 (out), AM19 GPIO_29 / SC_MDC (io), AM21 GPIO_21 / SDA6 (io), AM23 GPIO_9 / SPI_MISO (io), AM25 GPIO_1 / GPIO_MDC (io), AM27 SPI_SLV_SDI / I2C_SDA (io), AM28 SPI_SLV_SCLK / I2C_SCK (out), AM29 UART0_RXD (in), AM30 UART0_TXD (out), B19 MDIO_1 (io), B20 MDIO_0 (io), B21 SPI_SDI/SIO0 (io), B22 SPI_SIO3 (io), B23 SPI_RSTN (in), B24 SPI_CS#[1] (out), B32 USB_HSDM (io)
part E pins: A27 REG_IF_SEL (in), A30 HW_RESET_EN (in), AA1 RESETB (in), AG11 DDR_DATA_BUS (in), AG15 BOOT_SEL (in), AG16 DDR_TYPE_SEL_1 (in), AH11 IFU_PATCH_EN (in), AH15 I2C_DATA_ENDIAN_SEL (in), AH16 DDR_TYPE_SEL_0 (in), B25 RST_OUT (out), B27 SYS_LED_EN (in), C27 EXT_CPU_EN (in), C28 RST_CMD_DIS (in), U1 PWRMON (in), V1 XO (out), W1 XI (in), W3 IBRFE (io)
part F pins: A12 SGND (power), AA3 SGND (power), AA15 SGND (power), AA16 SGND (power), AA17 DGND (power), AB3 SGND (power), AB4 AGND_BG (power), AB15 SGND (power), AB16 SGND (power), AB17 DGND (power), AB27 DGND (power), AB30 DGND (power), AC3 SGND (power), AC4 AGND_BG (power), AC15 SGND (power), AC16 SGND (power), AC27 DGND (power), AD15 SGND (power), AD16 SGND (power), AD27 DGND (power), AD30 DGND (power), AF2 SGND (power), AF3 SGND (power), AF4 SGND (power), AF27 DGND (power), AF28 DGND (power), AF29 DGND (power), AF30 DGND (power), AF32 DGND (power), AG3 SGND (power), AG4 SGND (power), AG5 SGND (power), AG7 SGND (power), AG27 DGND (power), AH7 SGND (power), AH27 DGND (power), AH30 DGND (power), AJ2 SGND (power), AJ7 SGND (power), AJ8 SGND (power), AJ27 DGND (power), AK2 SGND (power), AK5 SGND (power), AK6 SGND (power), AK9 SGND (power), AK10 SGND (power), AK13 SGND (power), AK14 SGND (power), AK30 DGND (power), AL5 SGND (power), AL13 SGND (power), B3 SGND (power), B4 SGND (power), B7 SGND (power), B12 SGND (power), B17 SGND (power), B31 USB_GND (power), C6 SGND (power), C7 SGND (power), C10 SGND (power), C11 SGND (power), C12 SGND (power), C13 SGND (power), C14 SGND (power), C15 SGND (power), C16 SGND (power), C17 SGND (power), C31 USB_GND (power), C32 USB_GND (power), D26 AGND_PLL (power), E2 SGND (power), E3 SGND (power), E4 SGND (power), E23 DGND (power), E24 DGND (power), E26 AGND_PLL (power), E31 PCIE_GND (power), E32 PCIE_GND (power), F3 SGND (power), F4 SGND (power), F18 DGND (power), F19 DGND (power), F20 DGND (power), F24 DGND (power), F31 PCIE_GND (power), G4 SGND (power), G18 DGND (power), G19 DGND (power), G20 DGND (power), G24 DGND (power), G31 PCIE_GND (power), H17 DGND (power), H18 DGND (power), H19 DGND (power), H20 DGND (power), H24 DGND (power), H31 PCIE_GND (power), H32 PCIE_GND (power), J3 SGND (power), J17 DGND (power), J18 DGND (power), J19 DGND (power), J20 DGND (power), J24 DGND (power), K3 SGND (power), K16 SGND (power), K17 DGND (power), K18 DGND (power), K19 DGND (power), K20 DGND (power), L15 SGND (power), L16 SGND (power), L17 DGND (power), L18 DGND (power), L19 DGND (power), L20 DGND (power), L30 DGND (power), M4 SGND (power), M15 SGND (power), M16 SGND (power), M17 DGND (power), M18 DGND (power), M19 DGND (power), M20 DGND (power), M27 DGND (power), N2 SGND (power), N3 SGND (power), N4 SGND (power), N15 SGND (power), N16 SGND (power), N17 DGND (power), N18 DGND (power), N19 DGND (power), N20 DGND (power), N27 DGND (power), N30 DGND (power), P3 SGND (power), P4 SGND (power), P15 SGND (power), P16 SGND (power), P17 DGND (power), P18 DGND (power), P19 DGND (power), P27 DGND (power), R17 DGND (power), R18 DGND (power), R19 DGND (power), R27 DGND (power), R30 DGND (power), T12 DGND (power), T13 DGND (power), T14 DGND (power), T15 DGND (power), T16 DGND (power), T17 DGND (power), T18 DGND (power), T19 DGND (power), T27 DGND (power), U4 AGND_XTAL (power), U12 DGND (power), U13 DGND (power), U14 DGND (power), U15 DGND (power), U30 DGND (power), V12 DGND (power), V13 DGND (power), V14 DGND (power), V15 DGND (power), W15 SGND (power), W16 DGND (power), W17 DGND (power), W18 DGND (power), W19 DGND (power), Y15 SGND (power), Y16 DGND (power), Y17 DGND (power), Y18 DGND (power), Y19 DGND (power), Y20 DGND (power), Y30 DGND (power), Y32 DGND (power)
part G pins: A2 RESERVED, A13 RESERVED, A14 RESERVED, A15 RESERVED, A16 RESERVED, A17 RESERVED, A18 RESERVED, A25 RESERVED, A26 RESERVED, A28 RESERVED, A29 RESERVED, AA2 RESERVED, AA27 RESERVED, AB2 RESERVED, AC2 RESERVED, AD2 RESERVED, AG2 RESERVED, AG12 RESERVED, AG13 RESERVED, AG14 RESERVED, AG18 RESERVED, AG22 RESERVED, AG23 RESERVED, AH2 RESERVED, AH12 RESERVED, AH13 RESERVED, AH14 RESERVED, AH18 RESERVED, AH24 RESERVED, AJ11 RESERVED, AJ13 RESERVED, AJ15 RESERVED, AL1 RESERVED, AL2 RESERVED, AL3 RESERVED, AL6 RESERVED, AL7 RESERVED, AL9 RESERVED, AL10 RESERVED, AL11 RESERVED, AL14 RESERVED, AL15 RESERVED, AM31 RESERVED, B2 RESERVED, B5 RESERVED, B6 RESERVED, B9 RESERVED, B10 RESERVED, B11 RESERVED, B13 RESERVED, B14 RESERVED, B15 RESERVED, B16 RESERVED, B18 RESERVED, B26 RESERVED, B28 RESERVED, B29 RESERVED, C2 RESERVED, C18 RESERVED, C26 RESERVED, C29 RESERVED, D17 RESERVED, D18 RESERVED, F2 RESERVED, G2 RESERVED, J2 RESERVED, K2 RESERVED, K29 RESERVED, K31 RESERVED, L2 RESERVED, L27 RESERVED, P2 RESERVED, R2 RESERVED, U2 RESERVED, U3 RESERVED, V2 RESERVED, V3 RESERVED, V29 RESERVED, W2 RESERVED, W30 RESERVED, W31 RESERVED, Y2 RESERVED, Y3 RESERVED, Y27 RESERVED
part B text: DDR BANK; DDR3/DDR4
part C text: HIGH SPEED BANK; XSGMII; 10G BASE-R; PCIE Gen2
part D text: GPIO BANK; GPIO; UART; MDI; USB 2.0; SPI
part E text: CONFIG BANK
part F text: GND